# Altium footprint library Motor_Breakout.PcbLib: 9 footprints
Each footprint in its own frame and in the unit in brackets; x right, y up, seen from the top. Pads: shape width x height; smd on the part's side, far side on the other; paste and mask are expansions set on the pad; w line width, h text height; cw(c..) or ccw(c..) is an arc to the next point about the centre after c.
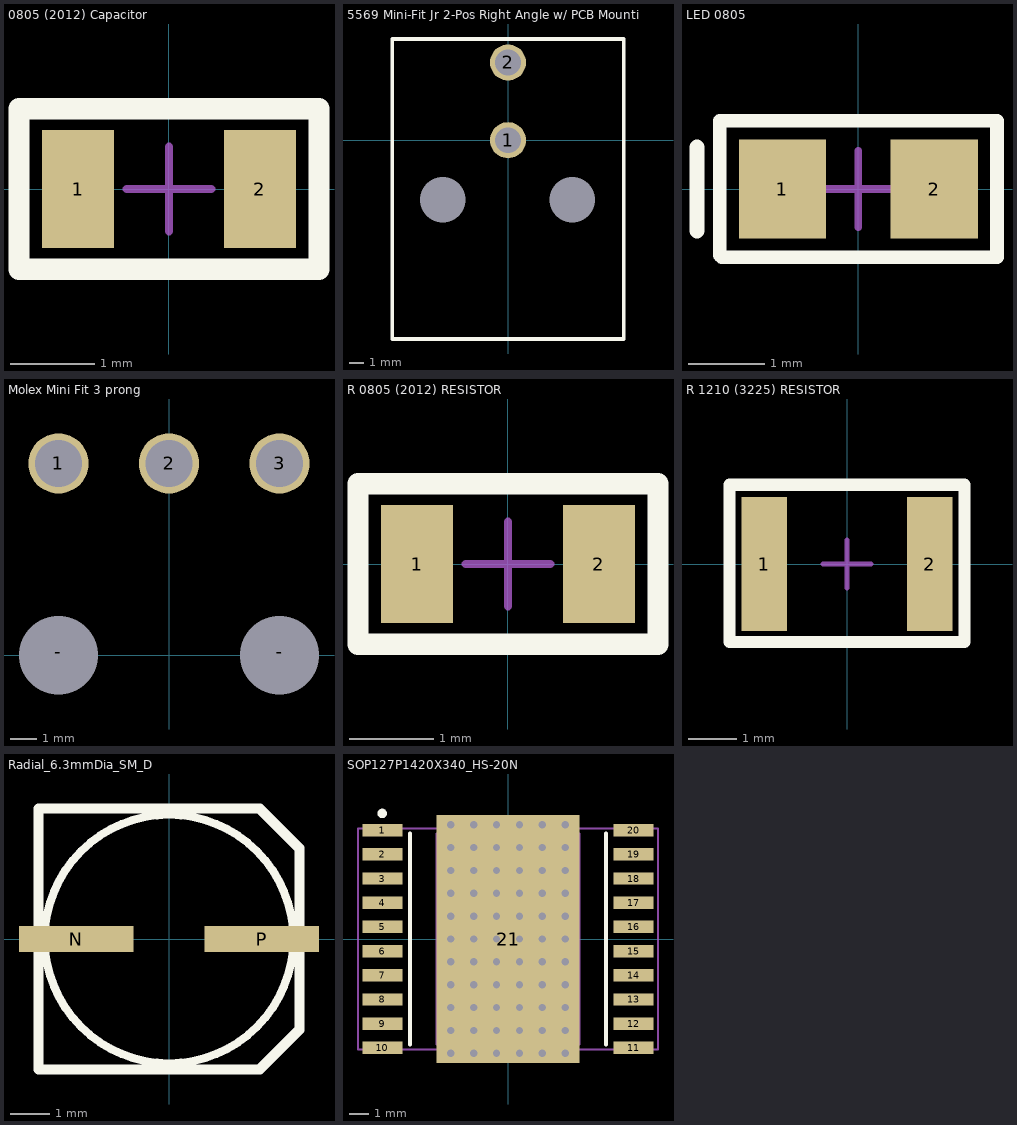
[diagram p0: the footprints below, top view; thin cyan lines are the x and y axes]

## 0805 (2012) Capacitor [mm] "0805 (2012) Capacitor"
height 0.6
pads (2):
  rect 0.85x1.4 smd: 1(-1.075,0) 2(1.075,0)
Top Overlay:
  lines w0.254: -1.775,-0.95 -1.775,0.95 1.775,0.95 1.775,-0.95 -1.775,-0.95
Mechanical 15:
  lines w0.1: -0.5,0 0.5,0 ; 0,-0.5 0,0.5 ; -1.775,-0.95 -1.775,0.95 1.775,0.95 1.775,-0.95 -1.775,-0.95
3D body: height 0.85, standoff 0, extent 0.813,-0.65 1.188,0.65
3D body: height 0.85, standoff 0, extent -1.1,-0.635 1.1,0.635
3D body: height 0.85, standoff 0, extent -1.188,-0.65 -0.813,0.65

## 5569 Mini-Fit Jr 2-Pos Right Angle w/ PCB Mounting Flange [mm] "4.20mm (.165\") Pitch Mini-Fit Jr.™ Header, Dual Row, Right Angle, with PCB Mounting Flange, 2 Circuits, PA Polyamide Nylon 6/6 94V-0, Tin (Sn) Plating"
pads (4):
  round 2.54 hole 1.8 unplated: 1(0,0) 2(0,5.461)
  round 0 hole 3.2 unplated: ""(-4.572,-4.191) ""(4.5,-4.2)
Top Overlay:
  lines w0.254: -8.128,-13.97 -8.128,7.112 8.128,7.112 8.128,-13.97 -8.128,-13.97
3D body: height 11.4, standoff -3.5, extent -7.675,-13.95 7.725,5.95

## LED 0805 [mm]
height 0.8
pads (2):
  rect 1.15x1.3 smd: 1(-1,0) 2(1,0)
Top Overlay:
  lines w0.178: -1.825,-0.875 -1.8,-0.9 1.825,-0.9 1.825,0.9 -1.825,0.9 -1.825,-0.875
  lines w0.2: -2.125,-0.55 -2.125,0.55
Mechanical 15:
  lines w0.1: -0.5,0 0.5,0 ; 0,-0.5 0,0.5 ; -1.825,-0.9 1.825,-0.9 1.825,0.9 -1.825,0.9 -1.825,-0.9
3D body: height 0.3, standoff 0, extent -1,-0.625 1,0.625
3D body: height 0.8, standoff 0, extent -0.7,-0.575 0.675,0.575

## Molex Mini Fit 3 prong [mil]
pads (5):
  round 90 hole 70: 1(-165.4,287) 2(0,287) 3(165.4,287)
  round 60 hole 118: -(-165.5,0) -(165.5,0)
3D body: height 283.46, standoff -141.73, extent -271.65,-245 271.65,308.15

## PCBComponent_1 [mm]

## R 0805 (2012) RESISTOR [mm] "0805 (2012) Resistor"
height 0.6
pads (2):
  rect 0.85x1.4 smd: 1(-1.075,0) 2(1.075,0)
Top Overlay:
  lines w0.254: -1.775,-0.95 1.775,-0.95 1.775,0.95 -1.775,0.95 -1.775,-0.95
Mechanical 15:
  lines w0.1: -0.5,0 0.5,0 ; 0,-0.5 0,0.5 ; -1.775,-0.95 1.775,-0.95 1.775,0.95 -1.775,0.95 -1.775,-0.95
3D body: height 0.85, standoff 0, extent -1.188,-0.65 -0.813,0.65
3D body: height 0.85, standoff 0, extent -1.1,-0.635 1.1,0.635
3D body: height 0.85, standoff 0, extent 0.813,-0.65 1.188,0.65

## R 1210 (3225) RESISTOR [mm] "1210 (3225) Resistor"
height 1.8
pads (2):
  rect 0.95x2.8 smd: 1(-1.725,0) 2(1.725,0)
Top Overlay:
  lines w0.254: -2.45,-1.625 2.45,-1.625 2.45,1.65 -2.45,1.65 -2.45,-1.625
Mechanical 15:
  lines w0.1: -0.5,0 0.5,0 ; 0,-0.5 0,0.5 ; -2.45,-1.65 -2.45,1.65 2.45,1.65 2.45,-1.65 -2.45,-1.65
3D body: height 1.8, standoff 0, extent -1.8,-1.4 1.8,1.4
3D body: height 1.81, standoff 0, extent -1.825,-1.425 -1.075,1.425
3D body: height 1.81, standoff 0, extent 1.075,-1.425 1.825,1.425

## Radial_6.3mmDia_SM_D [mm] "Surface Mount Aluminum Electrolytic Capacitor"
height 5.8
pads (2):
  rect 2.9x0.65 smd: N(-2.35,0) P(2.35,0)
Top Overlay:
  circle w0.203: c0,0 r3.15
  lines w0.254: -3.3,-3.3 2.3,-3.3 3.3,-2.3 3.3,2.3 2.3,3.3 -3.3,3.3 -3.3,-3.3
3D body: height 5.8, standoff 0, extent -3.159,-3.159 3.159,3.159

## SOP127P1420X340_HS-20N [mm] "SOP, 20-Leads, Body 11.1x7.5mm (max), Pitch 1.27mm, IPC Medium Density"
height 3.4
pads (21):
  rect 2.1x0.65 smd: 1(-6.6,5.715) 2(-6.6,4.445) 3(-6.6,3.175) 4(-6.6,1.905) 5(-6.6,0.635) 6(-6.6,-0.635) 7(-6.6,-1.905) 8(-6.6,-3.175) 9(-6.6,-4.445) 10(-6.6,-5.715) 11(6.6,-5.715) 12(6.6,-4.445) 13(6.6,-3.175) 14(6.6,-1.905) 15(6.6,-0.635) 16(6.6,0.635) 17(6.6,1.905) 18(6.6,3.175) 19(6.6,4.445) 20(6.6,5.715)
  rect 7.5x13 smd: 21(0,0)
via 3,-6 diameter 0.762 hole 0.381
via 1.8,-6 diameter 0.762 hole 0.381
via 0.6,-6 diameter 0.762 hole 0.381
via -0.6,-6 diameter 0.762 hole 0.381
via -1.8,-6 diameter 0.762 hole 0.381
via -3,-6 diameter 0.762 hole 0.381
via 3,-4.8 diameter 0.762 hole 0.381
via 1.8,-4.8 diameter 0.762 hole 0.381
via 0.6,-4.8 diameter 0.762 hole 0.381
via -0.6,-4.8 diameter 0.762 hole 0.381
via -1.8,-4.8 diameter 0.762 hole 0.381
via -3,-4.8 diameter 0.762 hole 0.381
via 3,-3.6 diameter 0.762 hole 0.381
via 1.8,-3.6 diameter 0.762 hole 0.381
via 0.6,-3.6 diameter 0.762 hole 0.381
via -0.6,-3.6 diameter 0.762 hole 0.381
via -1.8,-3.6 diameter 0.762 hole 0.381
via -3,-3.6 diameter 0.762 hole 0.381
via 3,-2.4 diameter 0.762 hole 0.381
via 1.8,-2.4 diameter 0.762 hole 0.381
via 0.6,-2.4 diameter 0.762 hole 0.381
via -0.6,-2.4 diameter 0.762 hole 0.381
via -1.8,-2.4 diameter 0.762 hole 0.381
via -3,-2.4 diameter 0.762 hole 0.381
via 3,-1.2 diameter 0.762 hole 0.381
via 1.8,-1.2 diameter 0.762 hole 0.381
via 0.6,-1.2 diameter 0.762 hole 0.381
via -0.6,-1.2 diameter 0.762 hole 0.381
via -1.8,-1.2 diameter 0.762 hole 0.381
via -3,-1.2 diameter 0.762 hole 0.381
via 3,0 diameter 0.762 hole 0.381
via 1.8,0 diameter 0.762 hole 0.381
via 0.6,0 diameter 0.762 hole 0.381
via -0.6,0 diameter 0.762 hole 0.381
via -1.8,0 diameter 0.762 hole 0.381
via -3,0 diameter 0.762 hole 0.381
via 3,1.2 diameter 0.762 hole 0.381
via 1.8,1.2 diameter 0.762 hole 0.381
via 0.6,1.2 diameter 0.762 hole 0.381
via -0.6,1.2 diameter 0.762 hole 0.381
via -1.8,1.2 diameter 0.762 hole 0.381
via -3,1.2 diameter 0.762 hole 0.381
via 3,2.4 diameter 0.762 hole 0.381
via 1.8,2.4 diameter 0.762 hole 0.381
via 0.6,2.4 diameter 0.762 hole 0.381
via -0.6,2.4 diameter 0.762 hole 0.381
via -1.8,2.4 diameter 0.762 hole 0.381
via -3,2.4 diameter 0.762 hole 0.381
via 3,3.6 diameter 0.762 hole 0.381
via 1.8,3.6 diameter 0.762 hole 0.381
via 0.6,3.6 diameter 0.762 hole 0.381
via -0.6,3.6 diameter 0.762 hole 0.381
via -1.8,3.6 diameter 0.762 hole 0.381
via -3,3.6 diameter 0.762 hole 0.381
via 3,4.8 diameter 0.762 hole 0.381
via 1.8,4.8 diameter 0.762 hole 0.381
via 0.6,4.8 diameter 0.762 hole 0.381
via -0.6,4.8 diameter 0.762 hole 0.381
via -1.8,4.8 diameter 0.762 hole 0.381
via -3,4.8 diameter 0.762 hole 0.381
via 3,6 diameter 0.762 hole 0.381
via 1.8,6 diameter 0.762 hole 0.381
via 0.6,6 diameter 0.762 hole 0.381
via -0.6,6 diameter 0.762 hole 0.381
via -1.8,6 diameter 0.762 hole 0.381
via -3,6 diameter 0.762 hole 0.381
Top Overlay:
  circle w0.25: c-6.6,6.59 r0.125
  lines w0.2: -5.15,-5.55 -5.15,5.55 ; 5.15,-5.55 5.15,5.55
Mechanical 13:
  circle w0.1: c-2.8,4.6 r0.5
  lines w0.1: -3.75,-5.55 3.75,-5.55 3.75,5.55 -3.75,5.55 -3.75,-5.55
Mechanical 15:
  lines w0.1: -0.5,0 0.5,0 ; 0,-0.5 0,0.5 ; -7.875,-5.8 7.875,-5.8 7.875,5.8 -7.875,5.8 -7.875,-5.8
3D body: height 3.4, standoff 0.1, extent -3.75,-5.55 3.75,5.55